# EAGLE library part ATMEGA1280V-8AU (library Atmel - ATMEGA1280V)
Name des Bauteiles: -->ATMEGA1280V-8AU Daten:8-bit Atmel Microcontroller with 64K/128K/256K Bytes In-System Programmable Flash,TQFP-100 Artikelnummer:#keine feste Artikelnummer vorhanden / Atikel nicht lagermäßig vorhanden! Datenblatt:www.atmel.com __________________________________________ generated by Eagle Description Tool am : 31.03.2014 10:07:24 erstellt von: hm
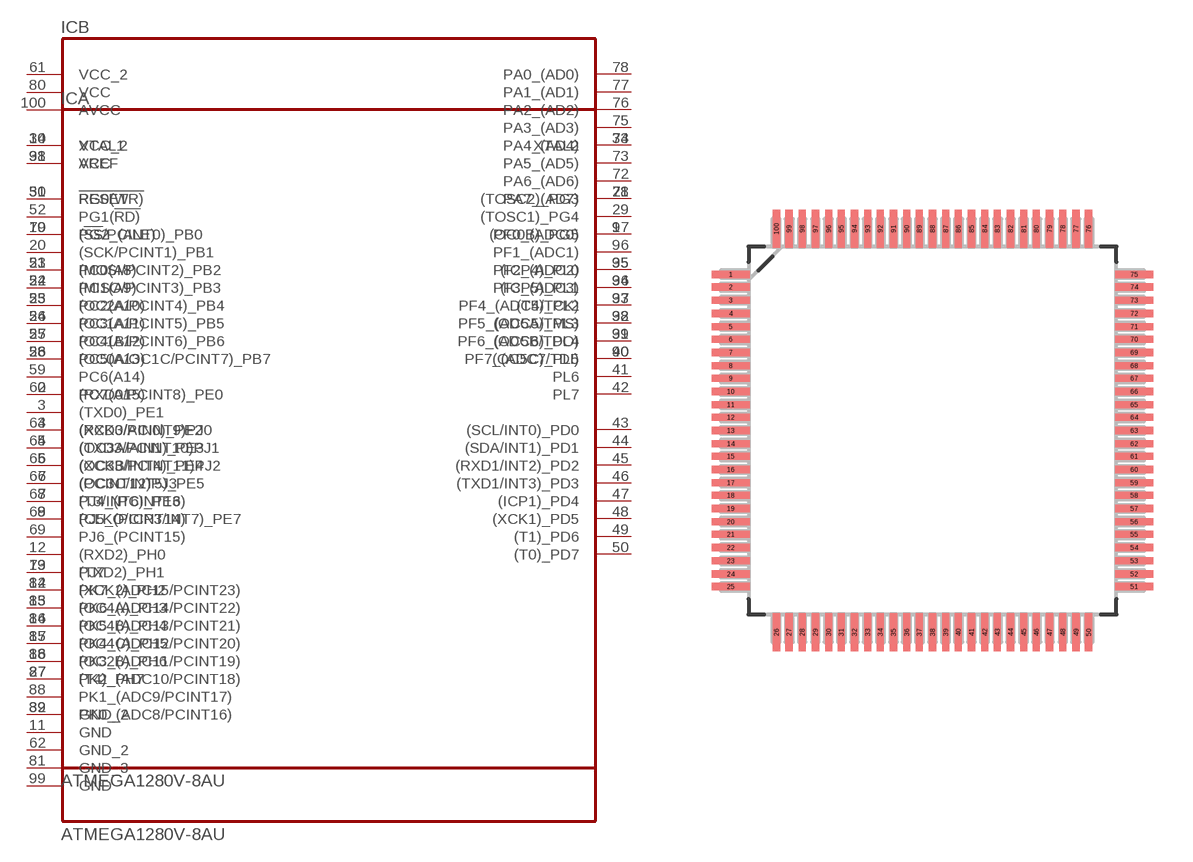
[diagram p0: symbol with the pads of QFP50P1600X1600X120-100N; footprint QFP50P1600X1600X120-100N]

Designator prefix IC; gates A=ATMEGA1280V-8AU_A B=ATMEGA1280V-8AU_B

## ATMEGA1280V-8AU (MPN: ATMEGA1280V-8AU; OC_FARNELL: 1455091; OC_NEWARK: 68T2535; PACKAGE: TQFP-100; SUPPLIER: ATMEL)  [QFP50P1600X1600X120-100N]
1  A:(OC0B)_PG5
2  A:(RXD0/PCINT8)_PE0
3  A:(TXD0)_PE1
4  A:(XCK0/AIN0)_PE2
5  A:(OC3A/AIN1)_PE3
6  A:(OC3B/INT4)_PE4
7  A:(OC3C/INT5)_PE5
8  A:(T3/INT6)_PE6
9  A:(CLKO/ICP3/INT7)_PE7
10  A:VCC_2  pwr
11  A:GND  pas
12  A:(RXD2)_PH0
13  A:(TXD2)_PH1
14  A:(XCK2)_PH2
15  A:(OC4A)_PH3
16  A:(OC4B)_PH4
17  A:(OC4C)_PH5
18  A:(OC2B)_PH6
19  A:(!SS!/PCINT0)_PB0
20  A:(SCK/PCINT1)_PB1
21  A:(MOSI/PCINT2)_PB2
22  A:(MISO/PCINT3)_PB3
23  A:(OC2A/PCINT4)_PB4
24  A:(OC1A/PCINT5)_PB5
25  A:(OC1B/PCINT6)_PB6
26  A:(OC0A/OC1C/PCINT7)_PB7
27  A:(T4)_PH7
28  A:(TOSC2)_PG3
29  A:(TOSC1)_PG4
30  A:!RESET  in
31  A:VCC  pwr
32  A:GND_2  pas
33  A:XTAL2  pas
34  B:XTAL1  pas
35  A:(ICP4)_PL0
36  A:(ICP5)_PL1
37  A:(T5)_PL2
38  A:(OC5A)_PL3
39  A:(OC5B)_PL4
40  A:(OC5C)_PL5
41  A:PL6
42  A:PL7
43  A:(SCL/INT0)_PD0
44  A:(SDA/INT1)_PD1
45  A:(RXD1/INT2)_PD2
46  A:(TXD1/INT3)_PD3
47  A:(ICP1)_PD4
48  A:(XCK1)_PD5
49  A:(T1)_PD6
50  A:(T0)_PD7
51  B:PG0(!WR)
52  B:PG1(!RD)
53  B:PC0(A8)
54  B:PC1(A9)
55  B:PC2(A10)
56  B:PC3(A11)
57  B:PC4(A12)
58  B:PC5(A13)
59  B:PC6(A14)
60  B:PC7(A15)
61  B:VCC_2  pwr
62  B:GND_2  pas
63  B:(RXD3/PCINT9)PJ0
64  B:(TXD3/PCINT10)PJ1
65  B:(XCK3/PCINT11)PJ2
66  B:(PCINT12)PJ3
67  B:PJ4_(PCINT13)
68  B:PJ5_(PCINT14)
69  B:PJ6_(PCINT15)
70  B:PG2_(ALE)
71  B:PA7_(AD7)
72  B:PA6_(AD6)
73  B:PA5_(AD5)
74  B:PA4_(AD4)
75  B:PA3_(AD3)
76  B:PA2_(AD2)
77  B:PA1_(AD1)
78  B:PA0_(AD0)
79  B:PJ7
80  B:VCC  pwr
81  B:GND_3  pas
82  B:PK7_(ADC15/PCINT23)
83  B:PK6_(ADC14/PCINT22)
84  B:PK5_(ADC13/PCINT21)
85  B:PK4_(ADC12/PCINT20)
86  B:PK3_(ADC11/PCINT19)
87  B:PK2_(ADC10/PCINT18)
88  B:PK1_(ADC9/PCINT17)
89  B:PK0_(ADC8/PCINT16)
90  B:PF7_(ADC7/TDI)
91  B:PF6_(ADC6/TDO)
92  B:PF5_(ADC5/TMS)
93  B:PF4_(ADC4/TCK)
94  B:PF3_(ADC3)
95  B:PF2_(ADC2)
96  B:PF1_(ADC1)
97  B:PF0_(ADC0)
98  B:AREF  pas
99  B:GND  pas
100  B:AVCC  pwr

## Footprint QFP50P1600X1600X120-100N (pad centres in mm)
smd 1.473 x 0.279: 1 -7.747,5.994; 2 -7.747,5.512; 3 -7.747,5.004; 4 -7.747,4.496; 5 -7.747,3.988; 6 -7.747,3.505; 7 -7.747,2.997; 8 -7.747,2.489; 9 -7.747,2.007; 10 -7.747,1.499; 11 -7.747,0.991; 12 -7.747,0.508; 13 -7.747,0; 14 -7.747,-0.508; 15 -7.747,-0.991; 16 -7.747,-1.499; 17 -7.747,-2.007; 18 -7.747,-2.489; 19 -7.747,-2.997; 20 -7.747,-3.505; 21 -7.747,-3.988; 22 -7.747,-4.496; 23 -7.747,-5.004; 24 -7.747,-5.512; 25 -7.747,-5.994; 51 7.747,-5.994; 52 7.747,-5.512; 53 7.747,-5.004; 54 7.747,-4.496; 55 7.747,-3.988; 56 7.747,-3.505; 57 7.747,-2.997; 58 7.747,-2.489; 59 7.747,-2.007; 60 7.747,-1.499; 61 7.747,-0.991; 62 7.747,-0.508; 63 7.747,0; 64 7.747,0.508; 65 7.747,0.991; 66 7.747,1.499; 67 7.747,2.007; 68 7.747,2.489; 69 7.747,2.997; 70 7.747,3.505; 71 7.747,3.988; 72 7.747,4.496; 73 7.747,5.004; 74 7.747,5.512; 75 7.747,5.994
smd 0.279 x 1.473: 26 -5.994,-7.747; 27 -5.512,-7.747; 28 -5.004,-7.747; 29 -4.496,-7.747; 30 -3.988,-7.747; 31 -3.505,-7.747; 32 -2.997,-7.747; 33 -2.489,-7.747; 34 -2.007,-7.747; 35 -1.499,-7.747; 36 -0.991,-7.747; 37 -0.508,-7.747; 38 0,-7.747; 39 0.508,-7.747; 40 0.991,-7.747; 41 1.499,-7.747; 42 2.007,-7.747; 43 2.489,-7.747; 44 2.997,-7.747; 45 3.505,-7.747; 46 3.988,-7.747; 47 4.496,-7.747; 48 5.004,-7.747; 49 5.512,-7.747; 50 5.994,-7.747; 76 5.994,7.747; 77 5.512,7.747; 78 5.004,7.747; 79 4.496,7.747; 80 3.988,7.747; 81 3.505,7.747; 82 2.997,7.747; 83 2.489,7.747; 84 2.007,7.747; 85 1.499,7.747; 86 0.991,7.747; 87 0.508,7.747; 88 0,7.747; 89 -0.508,7.747; 90 -0.991,7.747; 91 -1.499,7.747; 92 -2.007,7.747; 93 -2.489,7.747; 94 -2.997,7.747; 95 -3.505,7.747; 96 -3.988,7.747; 97 -4.496,7.747; 98 -5.004,7.747; 99 -5.512,7.747; 100 -5.994,7.747